# Altium schematic symbol library cypress.SCHLIB: 33 symbols
Pins are listed as number, name and electrical type; pins without a type are passive.

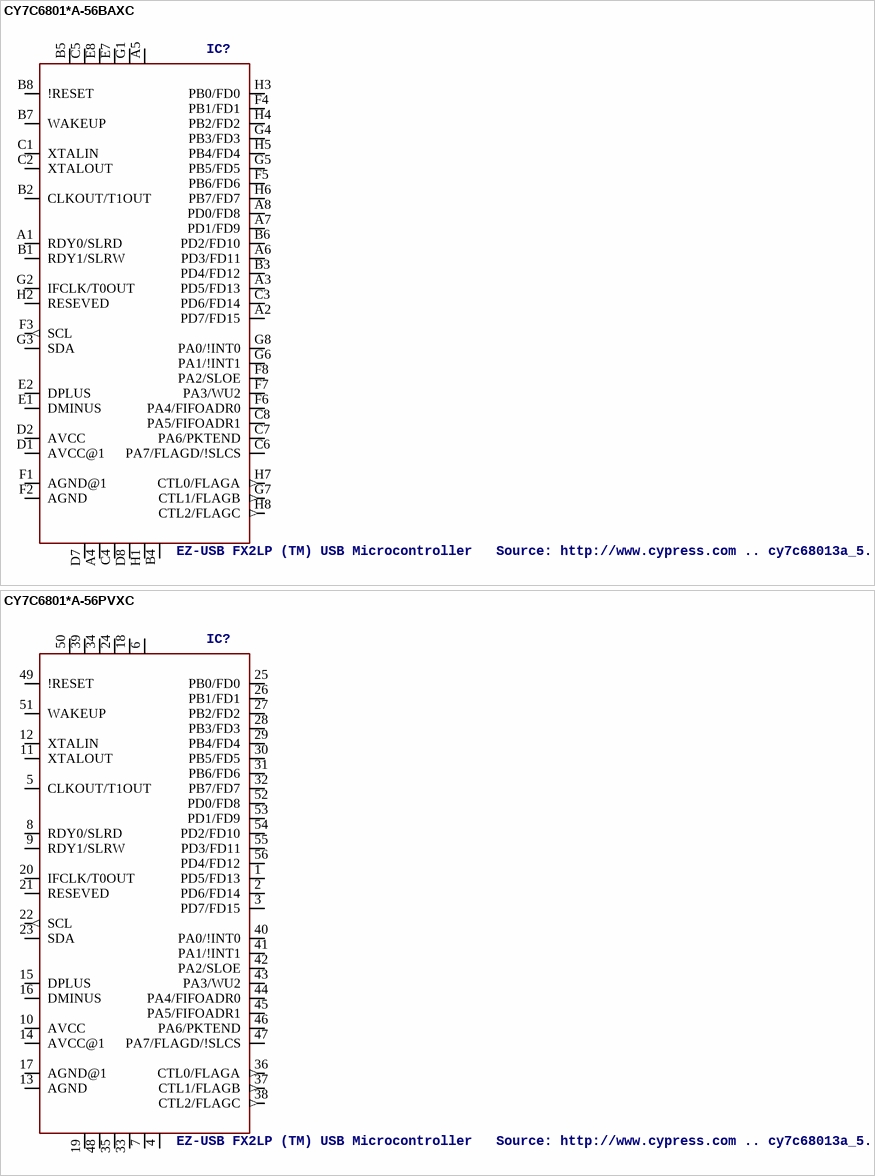
[diagram p0: symbols CY7C6801*A-56BAXC to CY7C6801*A-56PVXC]

## CY7C6801*A-56BAXC
designator IC?, comment EZ-USB FX2LP (TM) USB Microcontroller   Source: http://www.cypress.com .. cy7c68013a_5.pdf
MPN: CY7C68013A-56BAXC; MPN: CY7C68014A-56BAXC; MF: CYPRESS SEMICONDUCTOR CORPORAT; OC_FARNELL: 1269132; OC_NEWARK: 19M7110; OC_FARNELL: 1269138; OC_NEWARK: 23M5564
footprint VFBGA56
pins: A1 RDY0/SLRD, A2 PD7/FD15, A3 PD5/FD13, A4 GND@5, A5 VCC, A6 PD3/FD11, A7 PD1/FD9, A8 PD0/FD8, B1 RDY1/SLRW, B2 CLKOUT/T1OUT, B3 PD4/FD12, B4 GND, B5 VCC@5, B6 PD2/FD10, B7 WAKEUP, B8 !RESET, C1 XTALIN, C2 XTALOUT, C3 PD6/FD14, C4 GND@4, C5 VCC@4, C6 PA7/FLAGD/!SLCS, C7 PA6/PKTEND, C8 PA5/FIFOADR1, D1 AVCC@1, D2 AVCC, D7 GND@2, D8 GND@3, E1 DMINUS, E2 DPLUS, E7 VCC@2, E8 VCC@3, F1 AGND@1, F2 AGND, F3 SCL (out), F4 PB1/FD1, F5 PB6/FD6, F6 PA4/FIFOADR0, F7 PA3/WU2, F8 PA2/SLOE, G1 VCC@1, G2 IFCLK/T0OUT, G3 SDA, G4 PB3/FD3, G5 PB5/FD5, G6 PA1/!INT1, G7 CTL1/FLAGB (out), G8 PA0/!INT0, H1 GND@1, H2 RESEVED, H3 PB0/FD0, H4 PB2/FD2, H5 PB4/FD4, H6 PB7/FD7, H7 CTL0/FLAGA (out), H8 CTL2/FLAGC (out)

## CY7C6801*A-56PVXC
designator IC?, comment EZ-USB FX2LP (TM) USB Microcontroller   Source: http://www.cypress.com .. cy7c68013a_5.pdf
MPN: CY7C68013A-56PVXC; MPN: CY7C68014A-56PVXC; MF: CYPRESS SEMICONDUCTOR CORPORAT; OC_FARNELL: 1269134; OC_NEWARK: 19M7114; OC_FARNELL: 1269140; OC_NEWARK: 19M7121
footprint SSOP56
pins: 1 PD5/FD13, 2 PD6/FD14, 3 PD7/FD15, 4 GND, 5 CLKOUT/T1OUT, 6 VCC, 7 GND@1, 8 RDY0/SLRD, 9 RDY1/SLRW, 10 AVCC, 11 XTALOUT, 12 XTALIN, 13 AGND, 14 AVCC@1, 15 DPLUS, 16 DMINUS, 17 AGND@1, 18 VCC@1, 19 GND@2, 20 IFCLK/T0OUT, 21 RESEVED, 22 SCL (out), 23 SDA, 24 VCC@2, 25 PB0/FD0, 26 PB1/FD1, 27 PB2/FD2, 28 PB3/FD3, 29 PB4/FD4, 30 PB5/FD5, 31 PB6/FD6, 32 PB7/FD7, 33 GND@3, 34 VCC@3, 35 GND@4, 36 CTL0/FLAGA (out), 37 CTL1/FLAGB (out), 38 CTL2/FLAGC (out), 39 VCC@4, 40 PA0/!INT0, 41 PA1/!INT1, 42 PA2/SLOE, 43 PA3/WU2, 44 PA4/FIFOADR0, 45 PA5/FIFOADR1, 46 PA6/PKTEND, 47 PA7/FLAGD/!SLCS, 48 GND@5, 49 !RESET, 50 VCC@5, 51 WAKEUP, 52 PD0/FD8, 53 PD1/FD9, 54 PD2/FD10, 55 PD3/FD11, 56 PD4/FD12

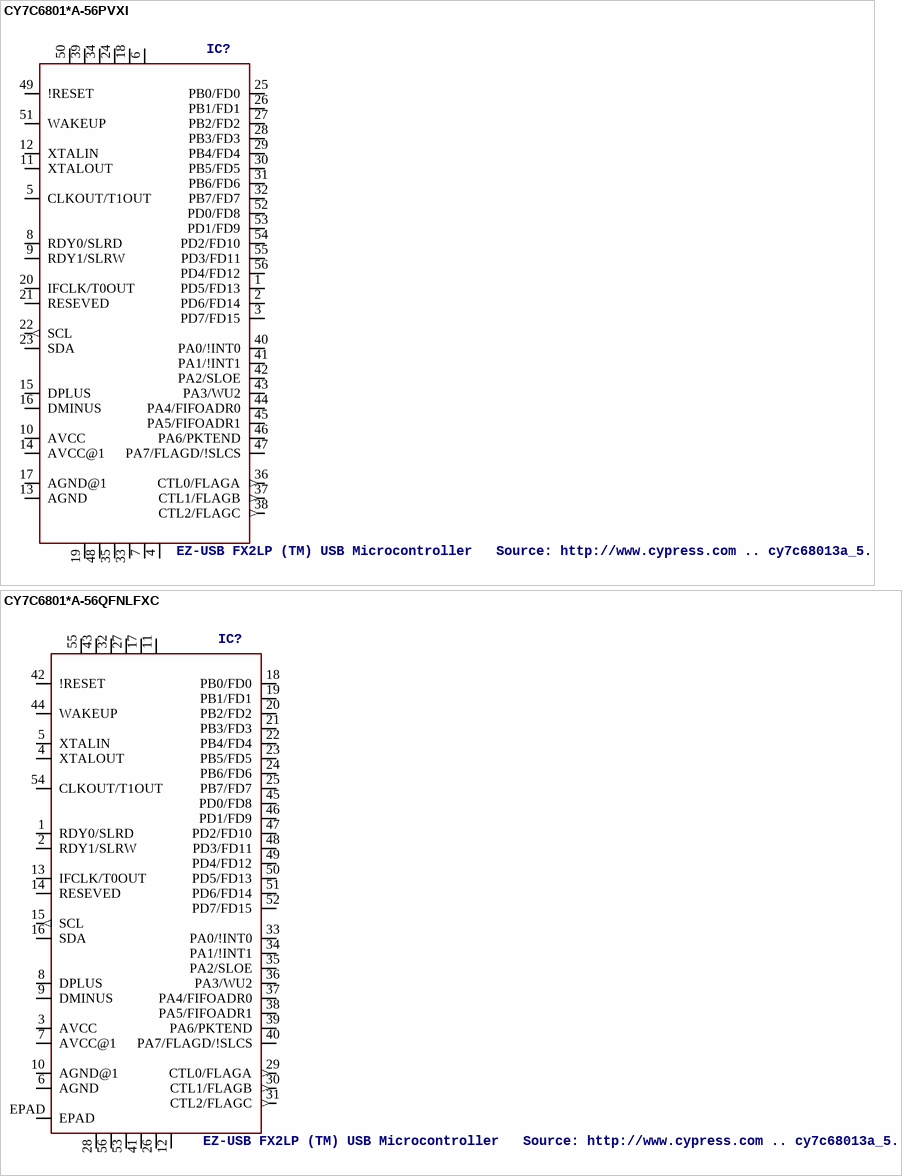
[diagram p1: symbols CY7C6801*A-56PVXI to CY7C6801*A-56QFNLFXC]

## CY7C6801*A-56PVXI
designator IC?, comment EZ-USB FX2LP (TM) USB Microcontroller   Source: http://www.cypress.com .. cy7c68013a_5.pdf
MPN: CY7C68013A-56PVXI; OC_FARNELL: 1761053; OC_NEWARK: 19M7116
footprint SSOP56
pins: 1 PD5/FD13, 2 PD6/FD14, 3 PD7/FD15, 4 GND, 5 CLKOUT/T1OUT, 6 VCC, 7 GND@1, 8 RDY0/SLRD, 9 RDY1/SLRW, 10 AVCC, 11 XTALOUT, 12 XTALIN, 13 AGND, 14 AVCC@1, 15 DPLUS, 16 DMINUS, 17 AGND@1, 18 VCC@1, 19 GND@2, 20 IFCLK/T0OUT, 21 RESEVED, 22 SCL (out), 23 SDA, 24 VCC@2, 25 PB0/FD0, 26 PB1/FD1, 27 PB2/FD2, 28 PB3/FD3, 29 PB4/FD4, 30 PB5/FD5, 31 PB6/FD6, 32 PB7/FD7, 33 GND@3, 34 VCC@3, 35 GND@4, 36 CTL0/FLAGA (out), 37 CTL1/FLAGB (out), 38 CTL2/FLAGC (out), 39 VCC@4, 40 PA0/!INT0, 41 PA1/!INT1, 42 PA2/SLOE, 43 PA3/WU2, 44 PA4/FIFOADR0, 45 PA5/FIFOADR1, 46 PA6/PKTEND, 47 PA7/FLAGD/!SLCS, 48 GND@5, 49 !RESET, 50 VCC@5, 51 WAKEUP, 52 PD0/FD8, 53 PD1/FD9, 54 PD2/FD10, 55 PD3/FD11, 56 PD4/FD12

## CY7C6801*A-56QFNLFXC
designator IC?, comment EZ-USB FX2LP (TM) USB Microcontroller   Source: http://www.cypress.com .. cy7c68013a_5.pdf
OC_FARNELL: unknown; OC_NEWARK: unknown
footprint QFN56
pins: 1 RDY0/SLRD, 2 RDY1/SLRW, 3 AVCC, 4 XTALOUT, 5 XTALIN, 6 AGND, 7 AVCC@1, 8 DPLUS, 9 DMINUS, 10 AGND@1, 11 VCC, 12 GND, 13 IFCLK/T0OUT, 14 RESEVED, 15 SCL (out), 16 SDA, 17 VCC@1, 18 PB0/FD0, 19 PB1/FD1, 20 PB2/FD2, 21 PB3/FD3, 22 PB4/FD4, 23 PB5/FD5, 24 PB6/FD6, 25 PB7/FD7, 26 GND@1, 27 VCC@2, 28 GND@2, 29 CTL0/FLAGA (out), 30 CTL1/FLAGB (out), 31 CTL2/FLAGC (out), 32 VCC@3, 33 PA0/!INT0, 34 PA1/!INT1, 35 PA2/SLOE, 36 PA3/WU2, 37 PA4/FIFOADR0, 38 PA5/FIFOADR1, 39 PA6/PKTEND, 40 PA7/FLAGD/!SLCS, 41 GND@3, 42 !RESET, 43 VCC@4, 44 WAKEUP, 45 PD0/FD8, 46 PD1/FD9, 47 PD2/FD10, 48 PD3/FD11, 49 PD4/FD12, 50 PD5/FD13, 51 PD6/FD14, 52 PD7/FD15, 53 GND@4, 54 CLKOUT/T1OUT, 55 VCC@5, 56 GND@5, EPAD

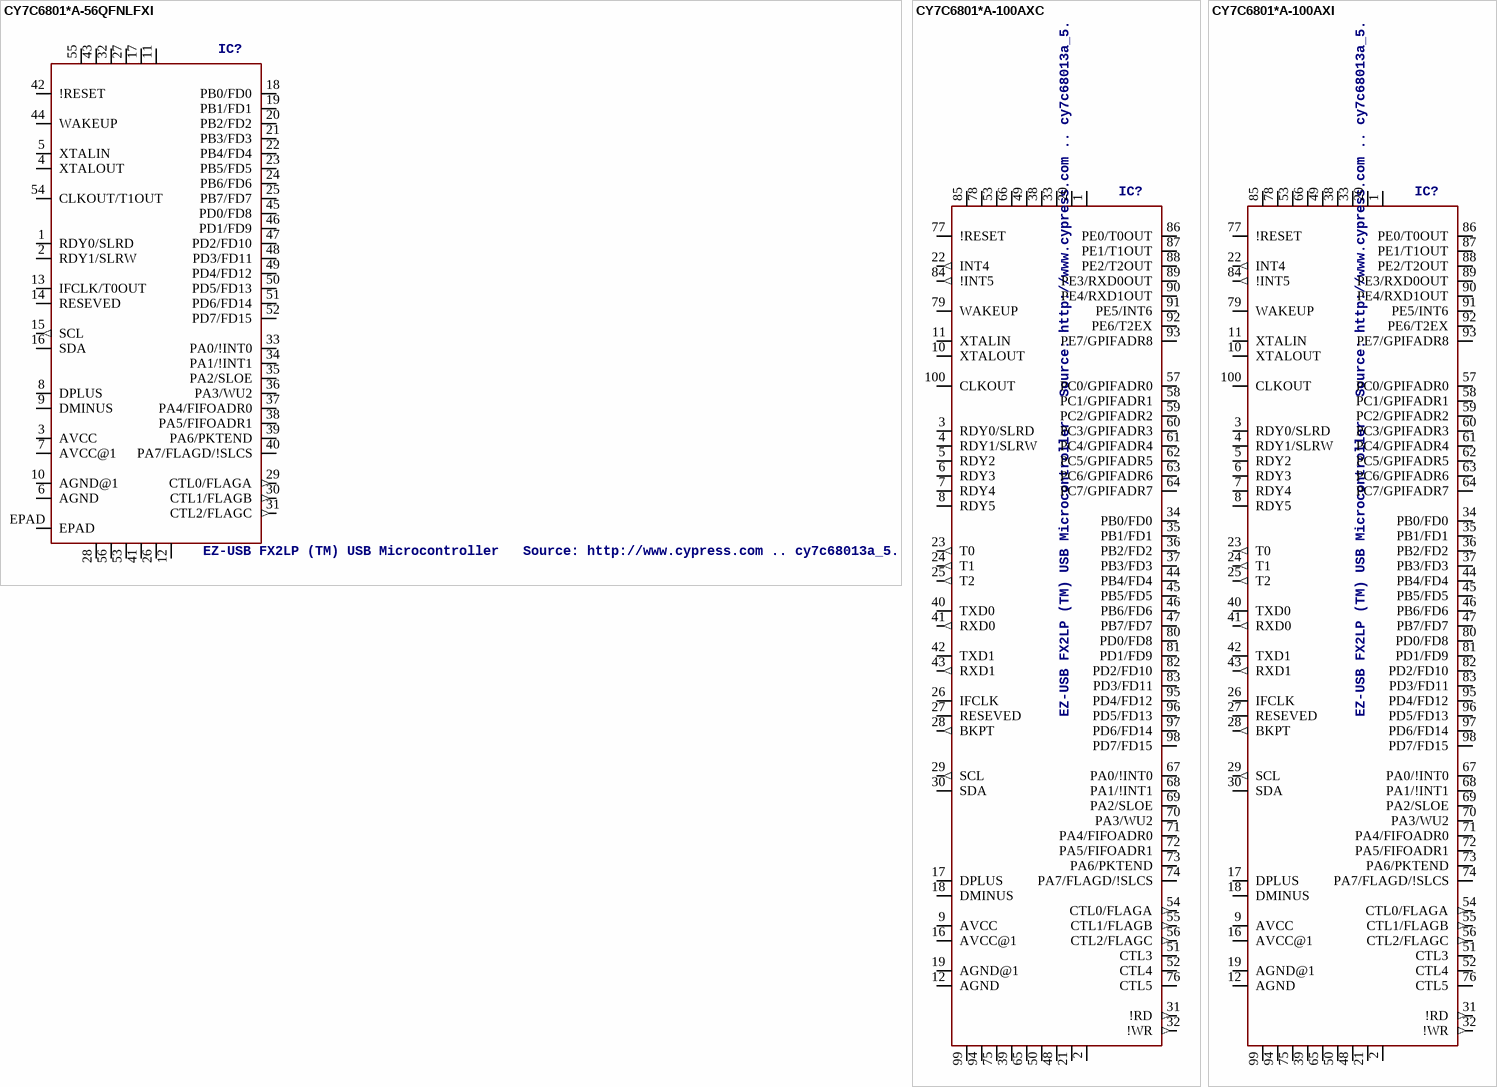
[diagram p2: symbols CY7C6801*A-56QFNLFXI to CY7C6801*A-100AXI]

## CY7C6801*A-56QFNLFXI
designator IC?, comment EZ-USB FX2LP (TM) USB Microcontroller   Source: http://www.cypress.com .. cy7c68013a_5.pdf
OC_FARNELL: unknown; OC_NEWARK: unknown
footprint QFN56
pins: 1 RDY0/SLRD, 2 RDY1/SLRW, 3 AVCC, 4 XTALOUT, 5 XTALIN, 6 AGND, 7 AVCC@1, 8 DPLUS, 9 DMINUS, 10 AGND@1, 11 VCC, 12 GND, 13 IFCLK/T0OUT, 14 RESEVED, 15 SCL (out), 16 SDA, 17 VCC@1, 18 PB0/FD0, 19 PB1/FD1, 20 PB2/FD2, 21 PB3/FD3, 22 PB4/FD4, 23 PB5/FD5, 24 PB6/FD6, 25 PB7/FD7, 26 GND@1, 27 VCC@2, 28 GND@2, 29 CTL0/FLAGA (out), 30 CTL1/FLAGB (out), 31 CTL2/FLAGC (out), 32 VCC@3, 33 PA0/!INT0, 34 PA1/!INT1, 35 PA2/SLOE, 36 PA3/WU2, 37 PA4/FIFOADR0, 38 PA5/FIFOADR1, 39 PA6/PKTEND, 40 PA7/FLAGD/!SLCS, 41 GND@3, 42 !RESET, 43 VCC@4, 44 WAKEUP, 45 PD0/FD8, 46 PD1/FD9, 47 PD2/FD10, 48 PD3/FD11, 49 PD4/FD12, 50 PD5/FD13, 51 PD6/FD14, 52 PD7/FD15, 53 GND@4, 54 CLKOUT/T1OUT, 55 VCC@5, 56 GND@5, EPAD

## CY7C6801*A-100AXC
designator IC?, comment EZ-USB FX2LP (TM) USB Microcontroller   Source: http://www.cypress.com .. cy7c68013a_5.pdf
MPN: CY7C68013A-100AXC; MPN: CY7C68014A-100AXC; MF: CYPRESS SEMICONDUCTOR CORPORAT; OC_FARNELL: 1269130; OC_NEWARK: 19M7106; OC_FARNELL: 1269135; OC_NEWARK: 19M7117
footprint SQFP-R-14X20-100
pins: 1 VCC, 2 GND, 3 RDY0/SLRD, 4 RDY1/SLRW, 5 RDY2, 6 RDY3, 7 RDY4, 8 RDY5, 9 AVCC, 10 XTALOUT, 11 XTALIN, 12 AGND, 16 AVCC@1, 17 DPLUS, 18 DMINUS, 19 AGND@1, 20 VCC@1, 21 GND@1, 22 INT4 (out), 23 T0 (out), 24 T1 (out), 25 T2 (out), 26 IFCLK, 27 RESEVED, 28 BKPT (out), 29 SCL (out), 30 SDA, 31 !RD (out), 32 !WR (out), 33 VCC@2, 34 PB0/FD0, 35 PB1/FD1, 36 PB2/FD2, 37 PB3/FD3, 38 VCC@3, 39 GND@2, 40 TXD0, 41 RXD0 (out), 42 TXD1, 43 RXD1 (out), 44 PB4/FD4, 45 PB5/FD5, 46 PB6/FD6, 47 PB7/FD7, 48 GND@3, 49 VCC@4, 50 GND@4, 51 CTL3, 52 CTL4, 53 VCC@6, 54 CTL0/FLAGA (out), 55 CTL1/FLAGB (out), 56 CTL2/FLAGC (out), 57 PC0/GPIFADR0, 58 PC1/GPIFADR1, 59 PC2/GPIFADR2, 60 PC3/GPIFADR3, 61 PC4/GPIFADR4, 62 PC5/GPIFADR5, 63 PC6/GPIFADR6, 64 PC7/GPIFADR7, 65 GND@5, 66 VCC@5, 67 PA0/!INT0, 68 PA1/!INT1, 69 PA2/SLOE, 70 PA3/WU2, 71 PA4/FIFOADR0, 72 PA5/FIFOADR1, 73 PA6/PKTEND, 74 PA7/FLAGD/!SLCS, 75 GND@6, 76 CTL5, 77 !RESET, 78 VCC@7, 79 WAKEUP, 80 PD0/FD8, 81 PD1/FD9, 82 PD2/FD10, 83 PD3/FD11, 84 !INT5 (out), 85 VCC@8, 86 PE0/T0OUT, 87 PE1/T1OUT, 88 PE2/T2OUT, 89 PE3/RXD0OUT, 90 PE4/RXD1OUT, 91 PE5/INT6, 92 PE6/T2EX, 93 PE7/GPIFADR8, 94 GND@7, 95 PD4/FD12, 96 PD5/FD13, 97 PD6/FD14, 98 PD7/FD15, 99 GND@8, 100 CLKOUT

## CY7C6801*A-100AXI
designator IC?, comment EZ-USB FX2LP (TM) USB Microcontroller   Source: http://www.cypress.com .. cy7c68013a_5.pdf
MPN: CY7C68013A-100AXI; OC_FARNELL: unknown; OC_NEWARK: 19M7107
footprint SQFP-R-14X20-100
pins: 1 VCC, 2 GND, 3 RDY0/SLRD, 4 RDY1/SLRW, 5 RDY2, 6 RDY3, 7 RDY4, 8 RDY5, 9 AVCC, 10 XTALOUT, 11 XTALIN, 12 AGND, 16 AVCC@1, 17 DPLUS, 18 DMINUS, 19 AGND@1, 20 VCC@1, 21 GND@1, 22 INT4 (out), 23 T0 (out), 24 T1 (out), 25 T2 (out), 26 IFCLK, 27 RESEVED, 28 BKPT (out), 29 SCL (out), 30 SDA, 31 !RD (out), 32 !WR (out), 33 VCC@2, 34 PB0/FD0, 35 PB1/FD1, 36 PB2/FD2, 37 PB3/FD3, 38 VCC@3, 39 GND@2, 40 TXD0, 41 RXD0 (out), 42 TXD1, 43 RXD1 (out), 44 PB4/FD4, 45 PB5/FD5, 46 PB6/FD6, 47 PB7/FD7, 48 GND@3, 49 VCC@4, 50 GND@4, 51 CTL3, 52 CTL4, 53 VCC@6, 54 CTL0/FLAGA (out), 55 CTL1/FLAGB (out), 56 CTL2/FLAGC (out), 57 PC0/GPIFADR0, 58 PC1/GPIFADR1, 59 PC2/GPIFADR2, 60 PC3/GPIFADR3, 61 PC4/GPIFADR4, 62 PC5/GPIFADR5, 63 PC6/GPIFADR6, 64 PC7/GPIFADR7, 65 GND@5, 66 VCC@5, 67 PA0/!INT0, 68 PA1/!INT1, 69 PA2/SLOE, 70 PA3/WU2, 71 PA4/FIFOADR0, 72 PA5/FIFOADR1, 73 PA6/PKTEND, 74 PA7/FLAGD/!SLCS, 75 GND@6, 76 CTL5, 77 !RESET, 78 VCC@7, 79 WAKEUP, 80 PD0/FD8, 81 PD1/FD9, 82 PD2/FD10, 83 PD3/FD11, 84 !INT5 (out), 85 VCC@8, 86 PE0/T0OUT, 87 PE1/T1OUT, 88 PE2/T2OUT, 89 PE3/RXD0OUT, 90 PE4/RXD1OUT, 91 PE5/INT6, 92 PE6/T2EX, 93 PE7/GPIFADR8, 94 GND@7, 95 PD4/FD12, 96 PD5/FD13, 97 PD6/FD14, 98 PD7/FD15, 99 GND@8, 100 CLKOUT

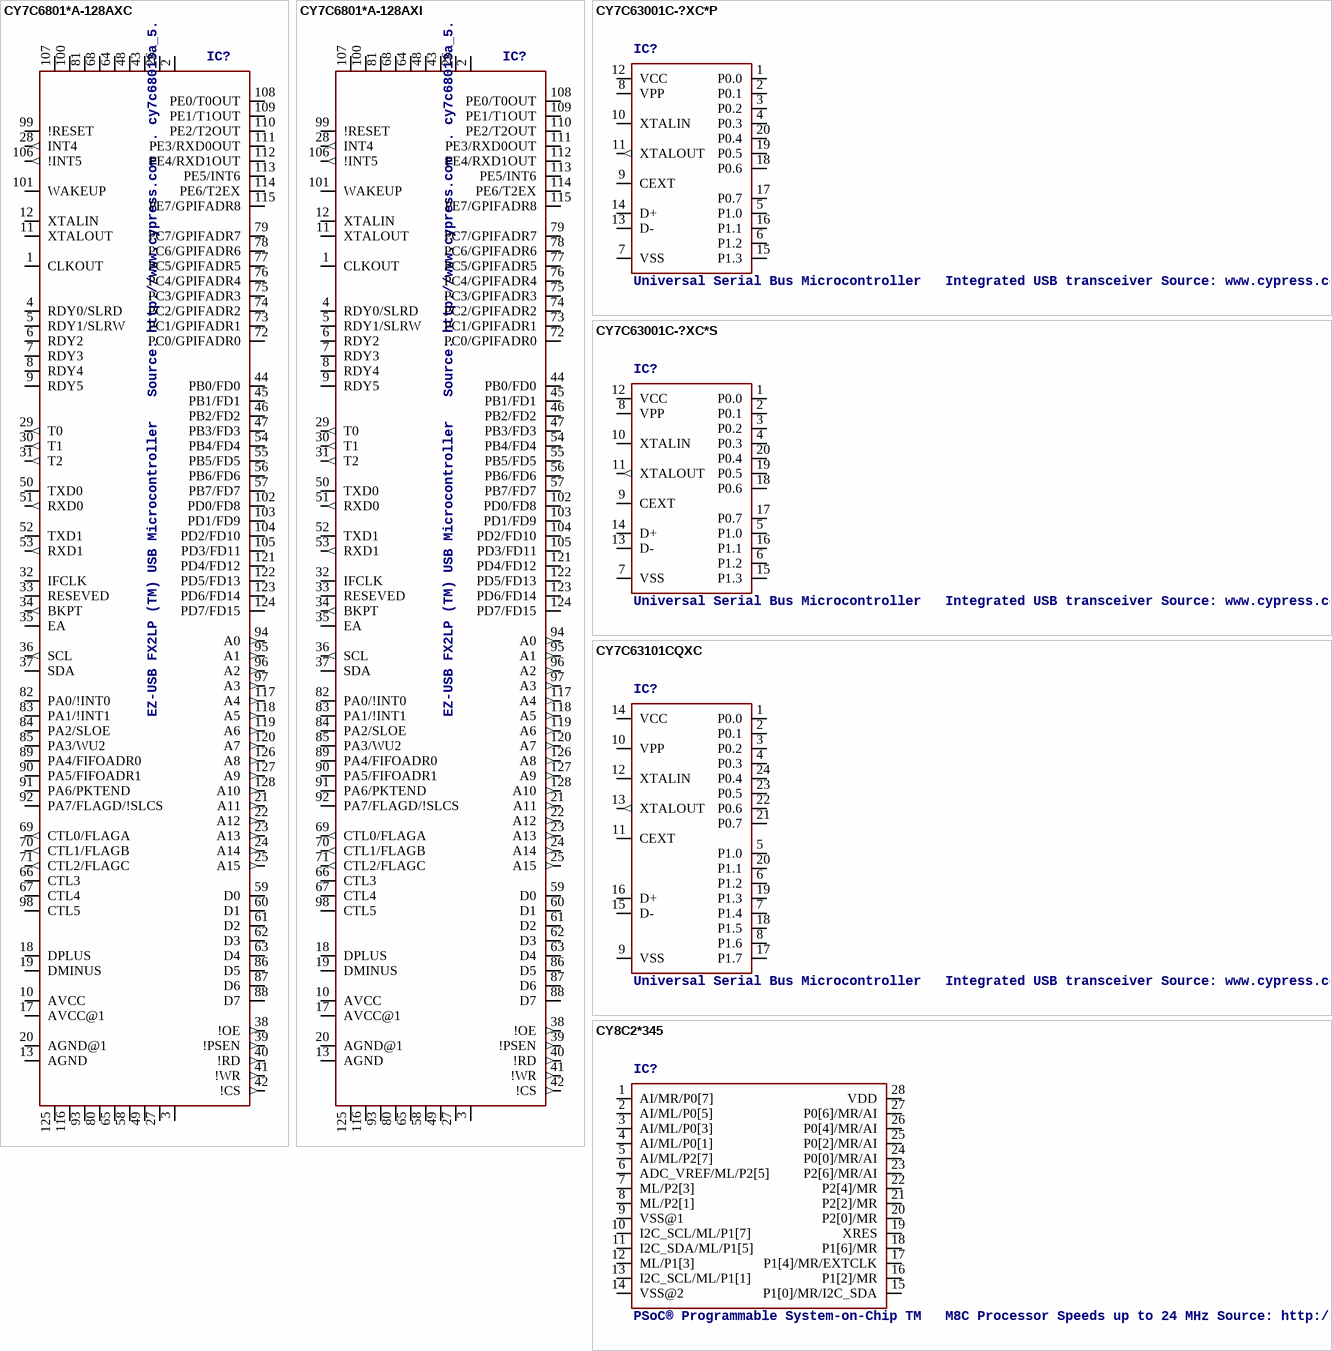
[diagram p3: symbols CY7C6801*A-128AXC to CY8C2*345]

## CY7C6801*A-128AXC
designator IC?, comment EZ-USB FX2LP (TM) USB Microcontroller   Source: http://www.cypress.com .. cy7c68013a_5.pdf
MPN: CY7C68013A-128AXC; MPN: CY7C68014A-128AXC; MF: CYPRESS SEMICONDUCTOR CORPORAT; OC_FARNELL: 1269131; OC_NEWARK: 19M7108; OC_FARNELL: 1269137; OC_NEWARK: 23M5563
footprint SQFP-R-14X20-128
pins: 1 CLKOUT, 2 VCC, 3 GND, 4 RDY0/SLRD, 5 RDY1/SLRW, 6 RDY2, 7 RDY3, 8 RDY4, 9 RDY5, 10 AVCC, 11 XTALOUT, 12 XTALIN, 13 AGND, 17 AVCC@1, 18 DPLUS, 19 DMINUS, 20 AGND@1, 21 A11 (out), 22 A12 (out), 23 A13 (out), 24 A14 (out), 25 A15 (out), 26 VCC@1, 27 GND@1, 28 INT4 (out), 29 T0 (out), 30 T1 (out), 31 T2 (out), 32 IFCLK, 33 RESEVED, 34 BKPT (out), 35 EA, 36 SCL (out), 37 SDA, 38 !OE (out), 39 !PSEN (out), 40 !RD (out), 41 !WR (out), 42 !CS (out), 43 VCC@2, 44 PB0/FD0, 45 PB1/FD1, 46 PB2/FD2, 47 PB3/FD3, 48 VCC@3, 49 GND@3, 50 TXD0, 51 RXD0 (out), 52 TXD1, 53 RXD1 (out), 54 PB4/FD4, 55 PB5/FD5, 56 PB6/FD6, 57 PB7/FD7, 58 GND@4, 59 D0, 60 D1, 61 D2, 62 D3, 63 D4, 64 VCC@4, 65 GND@5, 66 CTL3, 67 CTL4, 68 VCC@5, 69 CTL0/FLAGA (out), 70 CTL1/FLAGB (out), 71 CTL2/FLAGC (out), 72 PC0/GPIFADR0, 73 PC1/GPIFADR1, 74 PC2/GPIFADR2, 75 PC3/GPIFADR3, 76 PC4/GPIFADR4, 77 PC5/GPIFADR5, 78 PC6/GPIFADR6, 79 PC7/GPIFADR7, 80 GND@2, 81 VCC@6, 82 PA0/!INT0, 83 PA1/!INT1, 84 PA2/SLOE, 85 PA3/WU2, 86 D5, 87 D6, 88 D7, 89 PA4/FIFOADR0, 90 PA5/FIFOADR1, 91 PA6/PKTEND, 92 PA7/FLAGD/!SLCS, 93 GND@6, 94 A0 (out), 95 A1 (out), 96 A2 (out), 97 A3 (out), 98 CTL5, 99 !RESET, 100 VCC@7, 101 WAKEUP, 102 PD0/FD8, 103 PD1/FD9, 104 PD2/FD10, 105 PD3/FD11, 106 !INT5 (out), 107 VCC@8, 108 PE0/T0OUT, 109 PE1/T1OUT, 110 PE2/T2OUT, 111 PE3/RXD0OUT, 112 PE4/RXD1OUT, 113 PE5/INT6, 114 PE6/T2EX, 115 PE7/GPIFADR8, 116 GND@7, 117 A4 (out), 118 A5 (out), 119 A6 (out), 120 A7 (out), 121 PD4/FD12, 122 PD5/FD13, 123 PD6/FD14, 124 PD7/FD15, 125 GND@8, 126 A8 (out), 127 A9 (out), 128 A10 (out)

## CY7C6801*A-128AXI
designator IC?, comment EZ-USB FX2LP (TM) USB Microcontroller   Source: http://www.cypress.com .. cy7c68013a_5.pdf
MPN: CY7C68013A-128AXI; OC_FARNELL: 1761052; OC_NEWARK: 19M7109
footprint SQFP-R-14X20-128
pins: 1 CLKOUT, 2 VCC, 3 GND, 4 RDY0/SLRD, 5 RDY1/SLRW, 6 RDY2, 7 RDY3, 8 RDY4, 9 RDY5, 10 AVCC, 11 XTALOUT, 12 XTALIN, 13 AGND, 17 AVCC@1, 18 DPLUS, 19 DMINUS, 20 AGND@1, 21 A11 (out), 22 A12 (out), 23 A13 (out), 24 A14 (out), 25 A15 (out), 26 VCC@1, 27 GND@1, 28 INT4 (out), 29 T0 (out), 30 T1 (out), 31 T2 (out), 32 IFCLK, 33 RESEVED, 34 BKPT (out), 35 EA, 36 SCL (out), 37 SDA, 38 !OE (out), 39 !PSEN (out), 40 !RD (out), 41 !WR (out), 42 !CS (out), 43 VCC@2, 44 PB0/FD0, 45 PB1/FD1, 46 PB2/FD2, 47 PB3/FD3, 48 VCC@3, 49 GND@3, 50 TXD0, 51 RXD0 (out), 52 TXD1, 53 RXD1 (out), 54 PB4/FD4, 55 PB5/FD5, 56 PB6/FD6, 57 PB7/FD7, 58 GND@4, 59 D0, 60 D1, 61 D2, 62 D3, 63 D4, 64 VCC@4, 65 GND@5, 66 CTL3, 67 CTL4, 68 VCC@5, 69 CTL0/FLAGA (out), 70 CTL1/FLAGB (out), 71 CTL2/FLAGC (out), 72 PC0/GPIFADR0, 73 PC1/GPIFADR1, 74 PC2/GPIFADR2, 75 PC3/GPIFADR3, 76 PC4/GPIFADR4, 77 PC5/GPIFADR5, 78 PC6/GPIFADR6, 79 PC7/GPIFADR7, 80 GND@2, 81 VCC@6, 82 PA0/!INT0, 83 PA1/!INT1, 84 PA2/SLOE, 85 PA3/WU2, 86 D5, 87 D6, 88 D7, 89 PA4/FIFOADR0, 90 PA5/FIFOADR1, 91 PA6/PKTEND, 92 PA7/FLAGD/!SLCS, 93 GND@6, 94 A0 (out), 95 A1 (out), 96 A2 (out), 97 A3 (out), 98 CTL5, 99 !RESET, 100 VCC@7, 101 WAKEUP, 102 PD0/FD8, 103 PD1/FD9, 104 PD2/FD10, 105 PD3/FD11, 106 !INT5 (out), 107 VCC@8, 108 PE0/T0OUT, 109 PE1/T1OUT, 110 PE2/T2OUT, 111 PE3/RXD0OUT, 112 PE4/RXD1OUT, 113 PE5/INT6, 114 PE6/T2EX, 115 PE7/GPIFADR8, 116 GND@7, 117 A4 (out), 118 A5 (out), 119 A6 (out), 120 A7 (out), 121 PD4/FD12, 122 PD5/FD13, 123 PD6/FD14, 124 PD7/FD15, 125 GND@8, 126 A8 (out), 127 A9 (out), 128 A10 (out)

## CY7C63001C-?XC*P
designator IC?, comment Universal Serial Bus Microcontroller   Integrated USB transceiver Source: www.cypress.com .. CY7C6301XX.pdf
MPN: CY7C63001C-PXC; OC_FARNELL: unknown; OC_NEWARK: 19M7032
footprint DIL20
pins: 1 P0.0, 2 P0.1, 3 P0.2, 4 P0.3, 5 P1.0, 6 P1.2, 7 VSS (power), 8 VPP, 9 CEXT, 10 XTALIN, 11 XTALOUT (out), 12 VCC (power), 13 D-, 14 D+, 15 P1.3, 16 P1.1, 17 P0.7, 18 P0.6, 19 P0.5, 20 P0.4

## CY7C63001C-?XC*S
designator IC?, comment Universal Serial Bus Microcontroller   Integrated USB transceiver Source: www.cypress.com .. CY7C6301XX.pdf
MPN: CY7C63001C-SXC; MPN: CY7C63001C-SXCT; OC_FARNELL: 1769872; OC_NEWARK: 19M7033; OC_FARNELL: unknown; OC_NEWARK: 19M7034
footprint SO20L
pins: 1 P0.0, 2 P0.1, 3 P0.2, 4 P0.3, 5 P1.0, 6 P1.2, 7 VSS (power), 8 VPP, 9 CEXT, 10 XTALIN, 11 XTALOUT (out), 12 VCC (power), 13 D-, 14 D+, 15 P1.3, 16 P1.1, 17 P0.7, 18 P0.6, 19 P0.5, 20 P0.4

## CY7C63101CQXC
designator IC?, comment Universal Serial Bus Microcontroller   Integrated USB transceiver Source: www.cypress.com .. CY7C6301XX.pdf
MPN: CY7C63101C-QXC; OC_FARNELL: unknown; OC_NEWARK: 19M7035
footprint QSOP24
pins: 1 P0.0, 2 P0.1, 3 P0.2, 4 P0.3, 5 P1.0, 6 P1.2, 7 P1.4, 8 P1.6, 9 VSS (power), 10 VPP, 11 CEXT, 12 XTALIN, 13 XTALOUT (out), 14 VCC (power), 15 D-, 16 D+, 17 P1.7, 18 P1.5, 19 P1.3, 20 P1.1, 21 P0.7, 22 P0.6, 23 P0.5, 24 P0.4

## CY8C2*345
designator IC?, comment PSoC® Programmable System-on-Chip TM   M8C Processor Speeds up to 24 MHz Source: http://www.cypress.com .. CY8C213452.pdf
MPN: CY3250-22345; OC_FARNELL: unknown; OC_NEWARK: unknown; OC_NEWARK: 50R9266
footprint SOIC28-3
pins: 1 AI/MR/P0[7], 2 AI/ML/P0[5], 3 AI/ML/P0[3], 4 AI/ML/P0[1], 5 AI/ML/P2[7], 6 ADC_VREF/ML/P2[5], 7 ML/P2[3], 8 ML/P2[1], 9 VSS@1 (power), 10 I2C_SCL/ML/P1[7], 11 I2C_SDA/ML/P1[5], 12 ML/P1[3], 13 I2C_SCL/ML/P1[1], 14 VSS@2 (power), 15 P1[0]/MR/I2C_SDA, 16 P1[2]/MR, 17 P1[4]/MR/EXTCLK, 18 P1[6]/MR, 19 XRES, 20 P2[0]/MR, 21 P2[2]/MR, 22 P2[4]/MR, 23 P2[6]/MR/AI, 24 P0[0]/MR/AI, 25 P0[2]/MR/AI, 26 P0[4]/MR/AI, 27 P0[6]/MR/AI, 28 VDD (power)

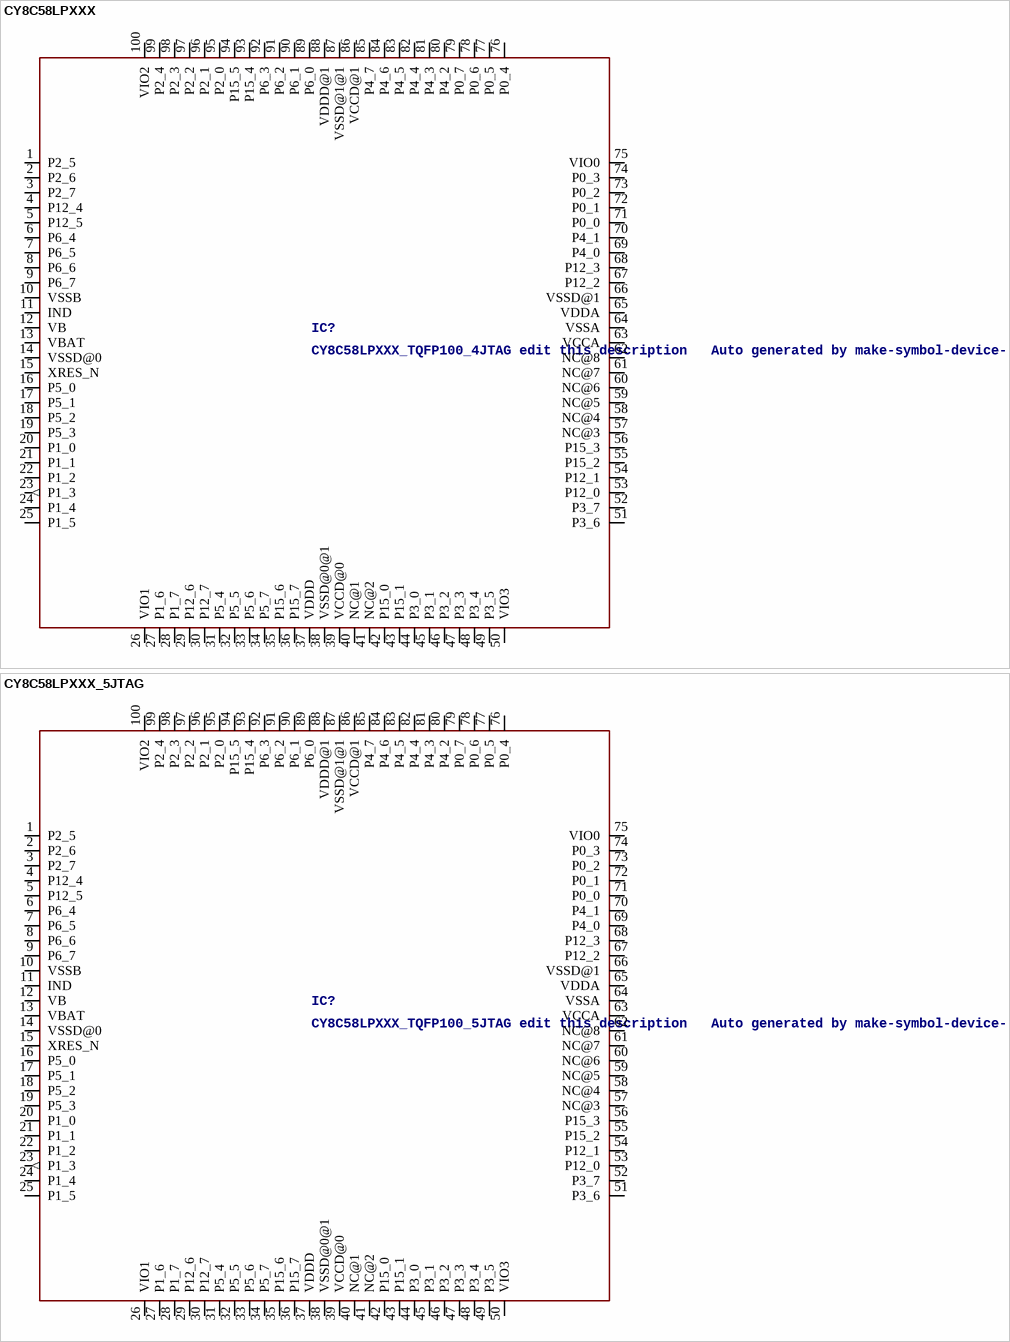
[diagram p4: symbols CY8C58LPXXX to CY8C58LPXXX_5JTAG]

## CY8C58LPXXX
designator IC?, comment CY8C58LPXXX_TQFP100_4JTAG edit this description   Auto generated by make-symbol-device-package-bsdl.ulp Rev. 43 Source: CY8C58LPXXX_TQFP100_4JTAG.bsdl
footprint TQFP100-14X14
pins: 1 P2_5, 2 P2_6, 3 P2_7, 4 P12_4, 5 P12_5, 6 P6_4, 7 P6_5, 8 P6_6, 9 P6_7, 10 VSSB (power), 11 IND, 12 VB, 13 VBAT, 14 VSSD@0 (power), 15 XRES_N, 16 P5_0, 17 P5_1, 18 P5_2, 19 P5_3, 20 P1_0, 21 P1_1, 22 P1_2, 23 P1_3 (out), 24 P1_4, 25 P1_5, 26 VIO1, 27 P1_6, 28 P1_7, 29 P12_6, 30 P12_7, 31 P5_4, 32 P5_5, 33 P5_6, 34 P5_7, 35 P15_6 (hiz), 36 P15_7 (hiz), 37 VDDD (power), 38 VSSD@0@1 (power), 39 VCCD@0 (power), 40 NC@1, 41 NC@2, 42 P15_0, 43 P15_1, 44 P3_0, 45 P3_1, 46 P3_2, 47 P3_3, 48 P3_4, 49 P3_5, 50 VIO3, 51 P3_6, 52 P3_7, 53 P12_0, 54 P12_1, 55 P15_2, 56 P15_3, 57 NC@3, 58 NC@4, 59 NC@5, 60 NC@6, 61 NC@7, 62 NC@8, 63 VCCA (power), 64 VSSA (power), 65 VDDA (power), 66 VSSD@1 (power), 67 P12_2, 68 P12_3, 69 P4_0, 70 P4_1, 71 P0_0, 72 P0_1, 73 P0_2, 74 P0_3, 75 VIO0, 76 P0_4, 77 P0_5, 78 P0_6, 79 P0_7, 80 P4_2, 81 P4_3, 82 P4_4, 83 P4_5, 84 P4_6, 85 P4_7, 86 VCCD@1 (power), 87 VSSD@1@1 (power), 88 VDDD@1 (power), 89 P6_0, 90 P6_1, 91 P6_2, 92 P6_3, 93 P15_4, 94 P15_5, 95 P2_0, 96 P2_1, 97 P2_2, 98 P2_3, 99 P2_4, 100 VIO2

## CY8C58LPXXX_5JTAG
designator IC?, comment CY8C58LPXXX_TQFP100_5JTAG edit this description   Auto generated by make-symbol-device-package-bsdl.ulp Rev. 43 Source: CY8C58LPXXX_TQFP100_5JTAG.bsdl
footprint TQFP100-14X14
pins: 1 P2_5, 2 P2_6, 3 P2_7, 4 P12_4, 5 P12_5, 6 P6_4, 7 P6_5, 8 P6_6, 9 P6_7, 10 VSSB (power), 11 IND, 12 VB, 13 VBAT, 14 VSSD@0 (power), 15 XRES_N, 16 P5_0, 17 P5_1, 18 P5_2, 19 P5_3, 20 P1_0, 21 P1_1, 22 P1_2, 23 P1_3 (out), 24 P1_4, 25 P1_5, 26 VIO1, 27 P1_6, 28 P1_7, 29 P12_6, 30 P12_7, 31 P5_4, 32 P5_5, 33 P5_6, 34 P5_7, 35 P15_6 (hiz), 36 P15_7 (hiz), 37 VDDD (power), 38 VSSD@0@1 (power), 39 VCCD@0 (power), 40 NC@1, 41 NC@2, 42 P15_0, 43 P15_1, 44 P3_0, 45 P3_1, 46 P3_2, 47 P3_3, 48 P3_4, 49 P3_5, 50 VIO3, 51 P3_6, 52 P3_7, 53 P12_0, 54 P12_1, 55 P15_2, 56 P15_3, 57 NC@3, 58 NC@4, 59 NC@5, 60 NC@6, 61 NC@7, 62 NC@8, 63 VCCA (power), 64 VSSA (power), 65 VDDA (power), 66 VSSD@1 (power), 67 P12_2, 68 P12_3, 69 P4_0, 70 P4_1, 71 P0_0, 72 P0_1, 73 P0_2, 74 P0_3, 75 VIO0, 76 P0_4, 77 P0_5, 78 P0_6, 79 P0_7, 80 P4_2, 81 P4_3, 82 P4_4, 83 P4_5, 84 P4_6, 85 P4_7, 86 VCCD@1 (power), 87 VSSD@1@1 (power), 88 VDDD@1 (power), 89 P6_0, 90 P6_1, 91 P6_2, 92 P6_3, 93 P15_4, 94 P15_5, 95 P2_0, 96 P2_1, 97 P2_2, 98 P2_3, 99 P2_4, 100 VIO2

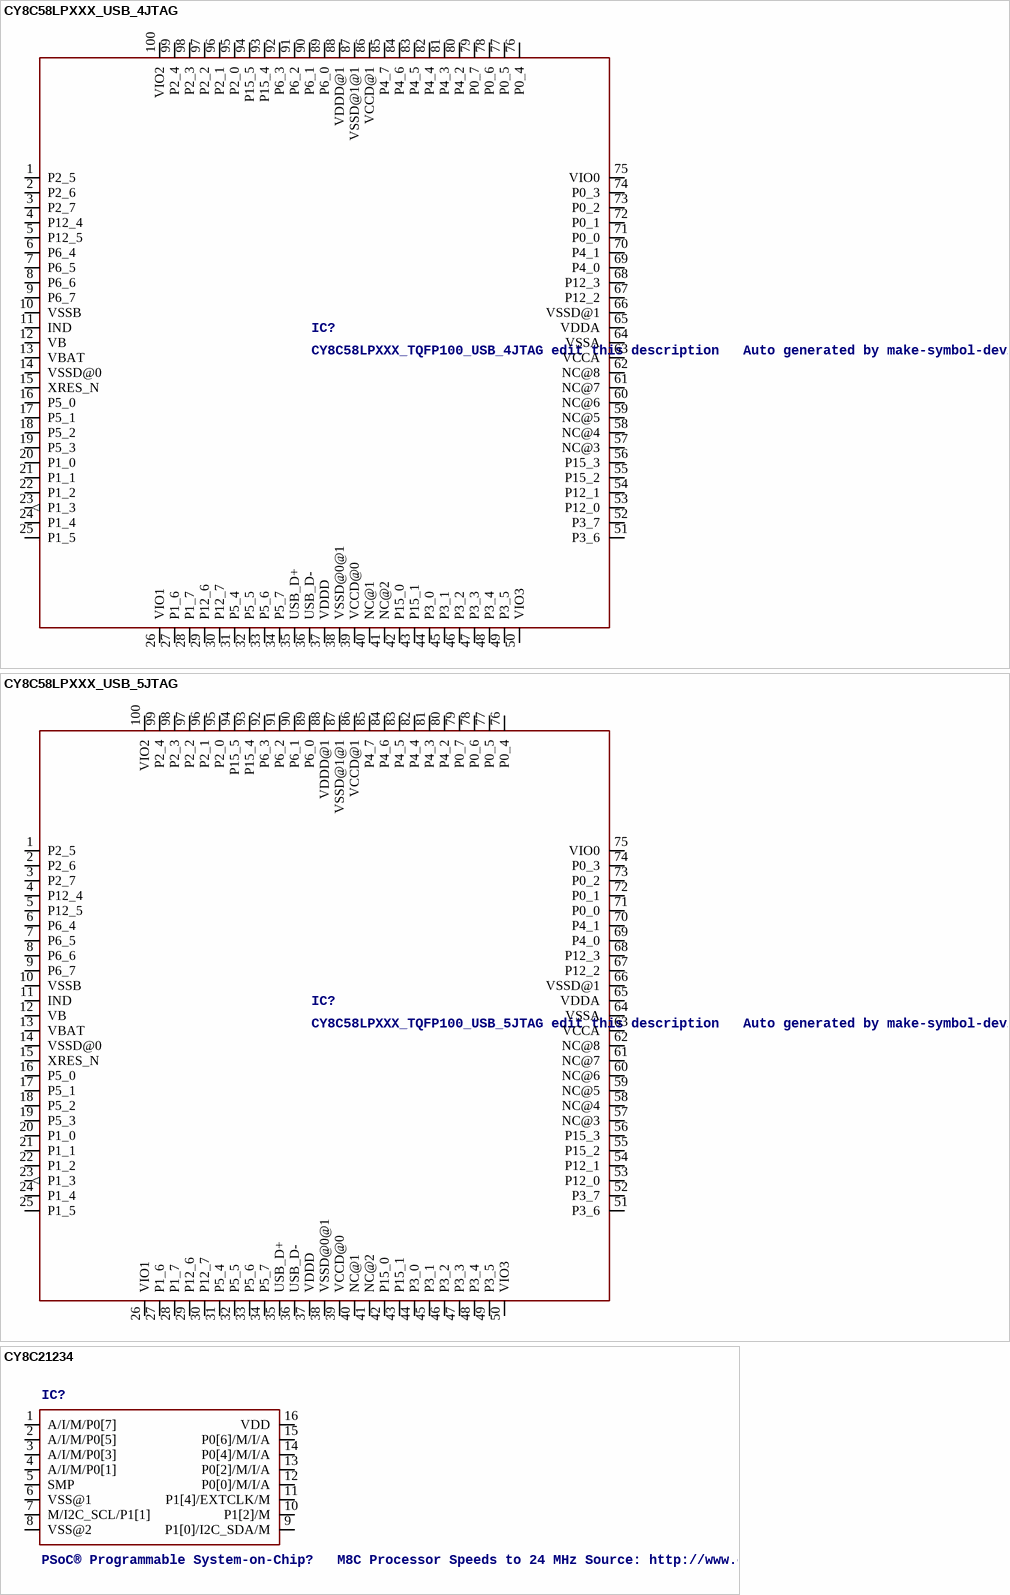
[diagram p5: symbols CY8C58LPXXX_USB_4JTAG to CY8C21234]

## CY8C58LPXXX_USB_4JTAG
designator IC?, comment CY8C58LPXXX_TQFP100_USB_4JTAG edit this description   Auto generated by make-symbol-device-package-bsdl.ulp Rev. 43 Source: CY8C58LPXXX_TQFP100_USB_4JTAG.bsdl
footprint TQFP100-14X14
pins: 1 P2_5, 2 P2_6, 3 P2_7, 4 P12_4, 5 P12_5, 6 P6_4, 7 P6_5, 8 P6_6, 9 P6_7, 10 VSSB (power), 11 IND, 12 VB, 13 VBAT, 14 VSSD@0 (power), 15 XRES_N, 16 P5_0, 17 P5_1, 18 P5_2, 19 P5_3, 20 P1_0, 21 P1_1, 22 P1_2, 23 P1_3 (out), 24 P1_4, 25 P1_5, 26 VIO1, 27 P1_6, 28 P1_7, 29 P12_6, 30 P12_7, 31 P5_4, 32 P5_5, 33 P5_6, 34 P5_7, 35 USB_D+ (hiz), 36 USB_D- (hiz), 37 VDDD (power), 38 VSSD@0@1 (power), 39 VCCD@0 (power), 40 NC@1, 41 NC@2, 42 P15_0, 43 P15_1, 44 P3_0, 45 P3_1, 46 P3_2, 47 P3_3, 48 P3_4, 49 P3_5, 50 VIO3, 51 P3_6, 52 P3_7, 53 P12_0, 54 P12_1, 55 P15_2, 56 P15_3, 57 NC@3, 58 NC@4, 59 NC@5, 60 NC@6, 61 NC@7, 62 NC@8, 63 VCCA (power), 64 VSSA (power), 65 VDDA (power), 66 VSSD@1 (power), 67 P12_2, 68 P12_3, 69 P4_0, 70 P4_1, 71 P0_0, 72 P0_1, 73 P0_2, 74 P0_3, 75 VIO0, 76 P0_4, 77 P0_5, 78 P0_6, 79 P0_7, 80 P4_2, 81 P4_3, 82 P4_4, 83 P4_5, 84 P4_6, 85 P4_7, 86 VCCD@1 (power), 87 VSSD@1@1 (power), 88 VDDD@1 (power), 89 P6_0, 90 P6_1, 91 P6_2, 92 P6_3, 93 P15_4, 94 P15_5, 95 P2_0, 96 P2_1, 97 P2_2, 98 P2_3, 99 P2_4, 100 VIO2

## CY8C58LPXXX_USB_5JTAG
designator IC?, comment CY8C58LPXXX_TQFP100_USB_5JTAG edit this description   Auto generated by make-symbol-device-package-bsdl.ulp Rev. 43 Source: CY8C58LPXXX_TQFP100_USB_5JTAG.bsdl
footprint TQFP100-14X14
pins: 1 P2_5, 2 P2_6, 3 P2_7, 4 P12_4, 5 P12_5, 6 P6_4, 7 P6_5, 8 P6_6, 9 P6_7, 10 VSSB (power), 11 IND, 12 VB, 13 VBAT, 14 VSSD@0 (power), 15 XRES_N, 16 P5_0, 17 P5_1, 18 P5_2, 19 P5_3, 20 P1_0, 21 P1_1, 22 P1_2, 23 P1_3 (out), 24 P1_4, 25 P1_5, 26 VIO1, 27 P1_6, 28 P1_7, 29 P12_6, 30 P12_7, 31 P5_4, 32 P5_5, 33 P5_6, 34 P5_7, 35 USB_D+ (hiz), 36 USB_D- (hiz), 37 VDDD (power), 38 VSSD@0@1 (power), 39 VCCD@0 (power), 40 NC@1, 41 NC@2, 42 P15_0, 43 P15_1, 44 P3_0, 45 P3_1, 46 P3_2, 47 P3_3, 48 P3_4, 49 P3_5, 50 VIO3, 51 P3_6, 52 P3_7, 53 P12_0, 54 P12_1, 55 P15_2, 56 P15_3, 57 NC@3, 58 NC@4, 59 NC@5, 60 NC@6, 61 NC@7, 62 NC@8, 63 VCCA (power), 64 VSSA (power), 65 VDDA (power), 66 VSSD@1 (power), 67 P12_2, 68 P12_3, 69 P4_0, 70 P4_1, 71 P0_0, 72 P0_1, 73 P0_2, 74 P0_3, 75 VIO0, 76 P0_4, 77 P0_5, 78 P0_6, 79 P0_7, 80 P4_2, 81 P4_3, 82 P4_4, 83 P4_5, 84 P4_6, 85 P4_7, 86 VCCD@1 (power), 87 VSSD@1@1 (power), 88 VDDD@1 (power), 89 P6_0, 90 P6_1, 91 P6_2, 92 P6_3, 93 P15_4, 94 P15_5, 95 P2_0, 96 P2_1, 97 P2_2, 98 P2_3, 99 P2_4, 100 VIO2

## CY8C21234
designator IC?, comment PSoC® Programmable System-on-Chip?   M8C Processor Speeds to 24 MHz Source: http://www.cypress.com .. 38-12025_0P_V.pdf
MPN: CY8C21234-24SXI; OC_FARNELL: 1321728; OC_NEWARK: 19M7160
footprint SOIC16
pins: 1 A/I/M/P0[7], 2 A/I/M/P0[5], 3 A/I/M/P0[3], 4 A/I/M/P0[1], 5 SMP (power), 6 VSS@1 (power), 7 M/I2C_SCL/P1[1], 8 VSS@2 (power), 9 P1[0]/I2C_SDA/M, 10 P1[2]/M, 11 P1[4]/EXTCLK/M, 12 P0[0]/M/I/A, 13 P0[2]/M/I/A, 14 P0[4]/M/I/A, 15 P0[6]/M/I/A, 16 VDD (power)

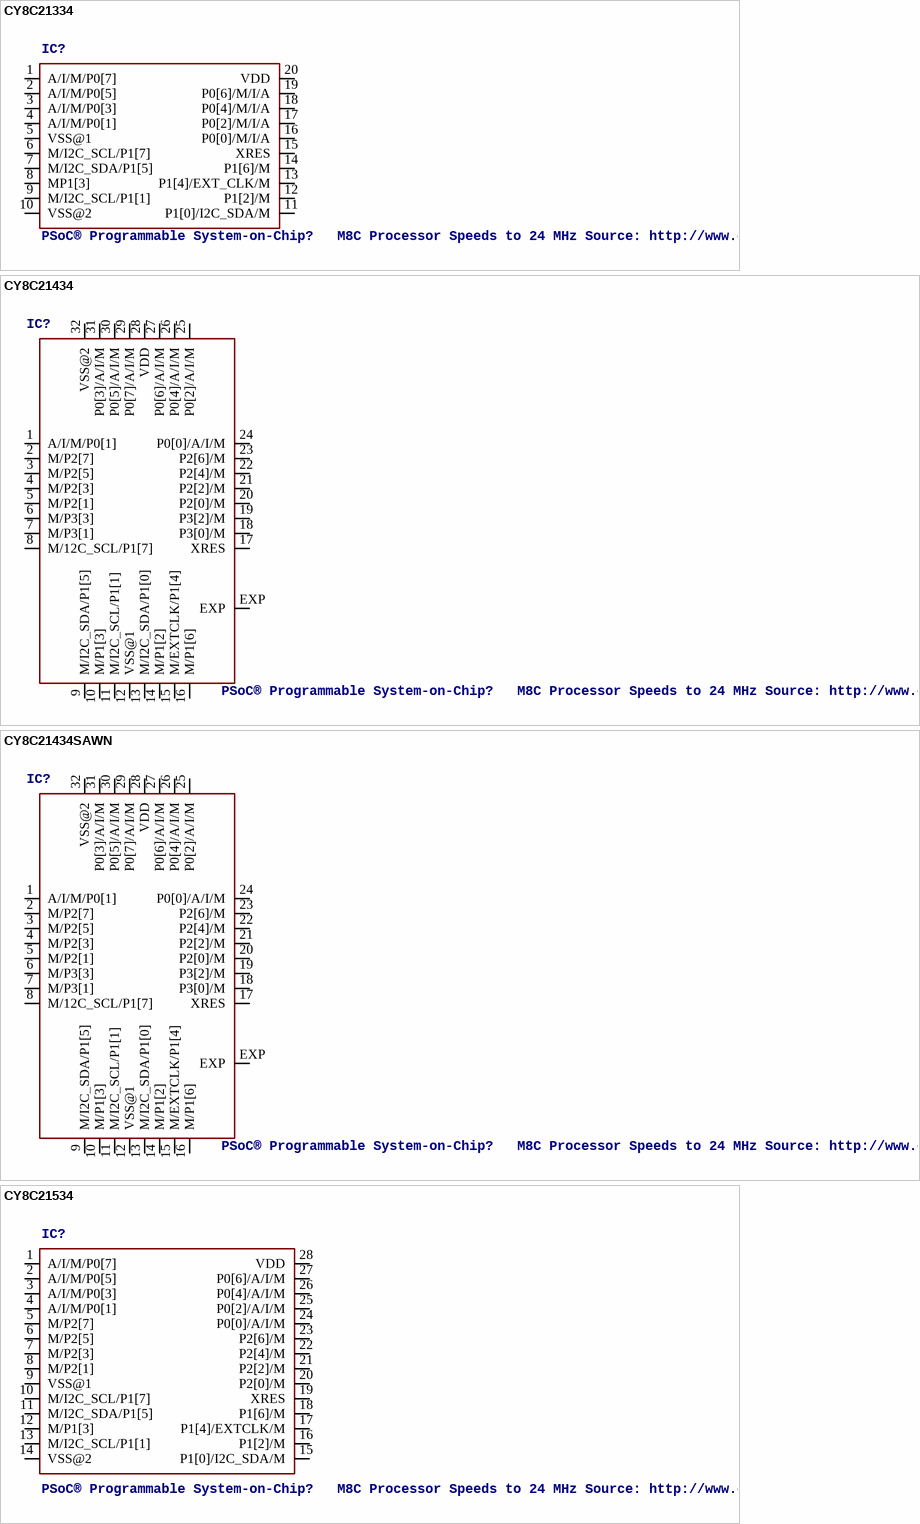
[diagram p6: symbols CY8C21334 to CY8C21534]

## CY8C21334
designator IC?, comment PSoC® Programmable System-on-Chip?   M8C Processor Speeds to 24 MHz Source: http://www.cypress.com .. 38-12025_0P_V.pdf
MPN: CY8C21334-12PVXE; OC_FARNELL: 1321731; OC_NEWARK: 53M3699
footprint SSOP20
pins: 1 A/I/M/P0[7], 2 A/I/M/P0[5], 3 A/I/M/P0[3], 4 A/I/M/P0[1], 5 VSS@1 (power), 6 M/I2C_SCL/P1[7], 7 M/I2C_SDA/P1[5], 8 MP1[3], 9 M/I2C_SCL/P1[1], 10 VSS@2 (power), 11 P1[0]/I2C_SDA/M, 12 P1[2]/M, 13 P1[4]/EXT_CLK/M, 14 P1[6]/M, 15 XRES, 16 P0[0]/M/I/A, 17 P0[2]/M/I/A, 18 P0[4]/M/I/A, 19 P0[6]/M/I/A, 20 VDD (power)

## CY8C21434
designator IC?, comment PSoC® Programmable System-on-Chip?   M8C Processor Speeds to 24 MHz Source: http://www.cypress.com .. 38-12025_0P_V.pdf
OC_FARNELL: 1321732; OC_NEWARK: unknown
footprint QFN32
pins: 1 A/I/M/P0[1], 2 M/P2[7], 3 M/P2[5], 4 M/P2[3], 5 M/P2[1], 6 M/P3[3], 7 M/P3[1], 8 M/12C_SCL/P1[7], 9 M/I2C_SDA/P1[5], 10 M/P1[3], 11 M/I2C_SCL/P1[1], 12 VSS@1 (power), 13 M/I2C_SDA/P1[0], 14 M/P1[2], 15 M/EXTCLK/P1[4], 16 M/P1[6], 17 XRES, 18 P3[0]/M, 19 P3[2]/M, 20 P2[0]/M, 21 P2[2]/M, 22 P2[4]/M, 23 P2[6]/M, 24 P0[0]/A/I/M, 25 P0[2]/A/I/M, 26 P0[4]/A/I/M, 27 P0[6]/A/I/M, 28 VDD (power), 29 P0[7]/A/I/M, 30 P0[5]/A/I/M, 31 P0[3]/A/I/M, 32 VSS@2 (power), EXP

## CY8C21434SAWN
designator IC?, comment PSoC® Programmable System-on-Chip?   M8C Processor Speeds to 24 MHz Source: http://www.cypress.com .. 38-12025_0P_V.pdf
OC_FARNELL: unknown; OC_NEWARK: unknown
footprint QFN32-SAWN
pins: 1 A/I/M/P0[1], 2 M/P2[7], 3 M/P2[5], 4 M/P2[3], 5 M/P2[1], 6 M/P3[3], 7 M/P3[1], 8 M/12C_SCL/P1[7], 9 M/I2C_SDA/P1[5], 10 M/P1[3], 11 M/I2C_SCL/P1[1], 12 VSS@1 (power), 13 M/I2C_SDA/P1[0], 14 M/P1[2], 15 M/EXTCLK/P1[4], 16 M/P1[6], 17 XRES, 18 P3[0]/M, 19 P3[2]/M, 20 P2[0]/M, 21 P2[2]/M, 22 P2[4]/M, 23 P2[6]/M, 24 P0[0]/A/I/M, 25 P0[2]/A/I/M, 26 P0[4]/A/I/M, 27 P0[6]/A/I/M, 28 VDD (power), 29 P0[7]/A/I/M, 30 P0[5]/A/I/M, 31 P0[3]/A/I/M, 32 VSS@2 (power), EXP

## CY8C21534
designator IC?, comment PSoC® Programmable System-on-Chip?   M8C Processor Speeds to 24 MHz Source: http://www.cypress.com .. 38-12025_0P_V.pdf
MPN: CY8C21534-12PVXE; OC_FARNELL: 1321733; OC_NEWARK: 19M7172
footprint SSOP28
pins: 1 A/I/M/P0[7], 2 A/I/M/P0[5], 3 A/I/M/P0[3], 4 A/I/M/P0[1], 5 M/P2[7], 6 M/P2[5], 7 M/P2[3], 8 M/P2[1], 9 VSS@1 (power), 10 M/I2C_SCL/P1[7], 11 M/I2C_SDA/P1[5], 12 M/P1[3], 13 M/I2C_SCL/P1[1], 14 VSS@2 (power), 15 P1[0]/I2C_SDA/M, 16 P1[2]/M, 17 P1[4]/EXTCLK/M, 18 P1[6]/M, 19 XRES, 20 P2[0]/M, 21 P2[2]/M, 22 P2[4]/M, 23 P2[6]/M, 24 P0[0]/A/I/M, 25 P0[2]/A/I/M, 26 P0[4]/A/I/M, 27 P0[6]/A/I/M, 28 VDD (power)

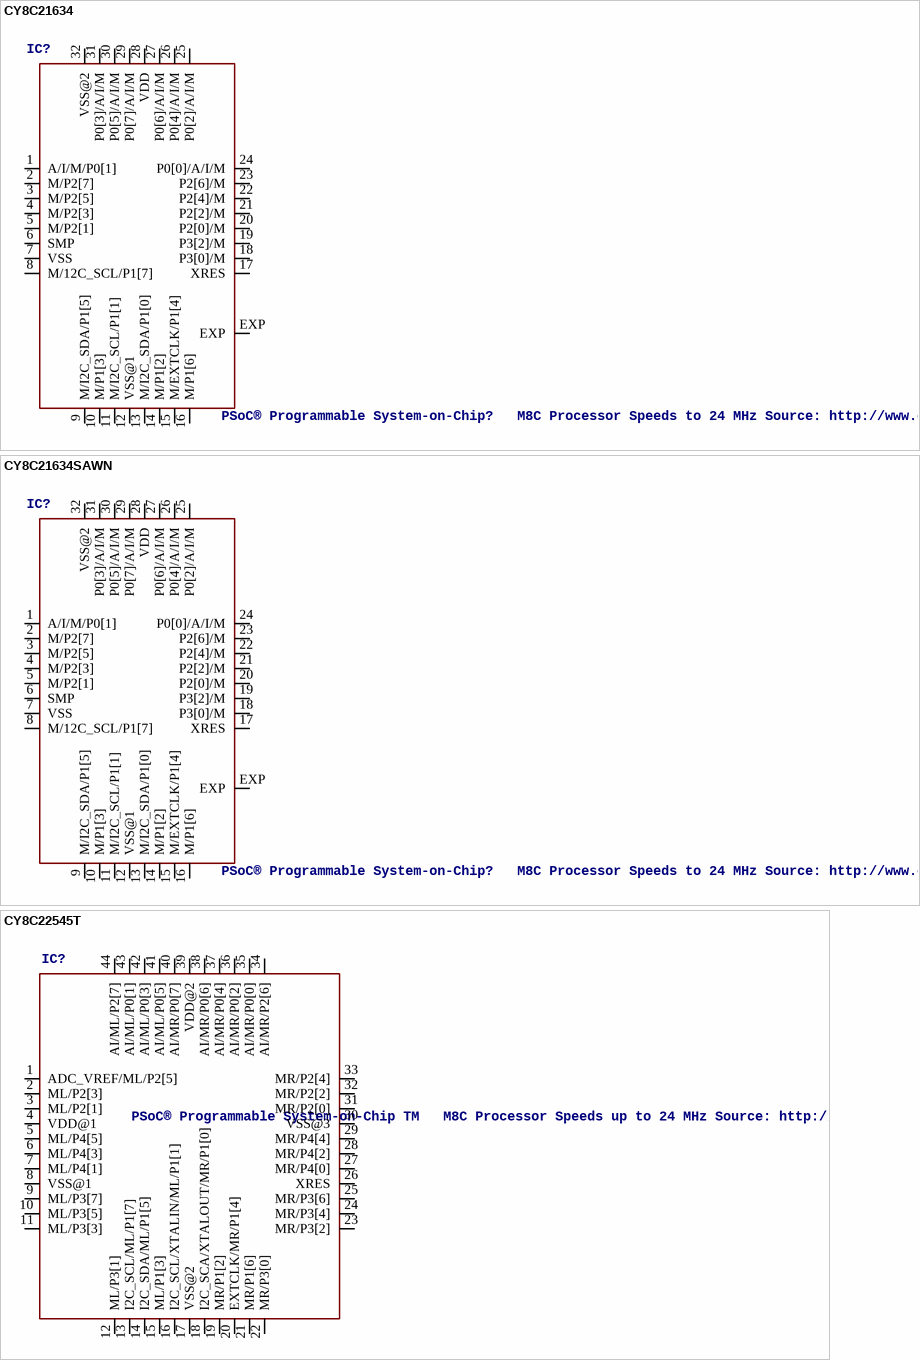
[diagram p7: symbols CY8C21634 to CY8C22545T]

## CY8C21634
designator IC?, comment PSoC® Programmable System-on-Chip?   M8C Processor Speeds to 24 MHz Source: http://www.cypress.com .. 38-12025_0P_V.pdf
OC_FARNELL: 1321734; OC_NEWARK: unknown
footprint QFN32
pins: 1 A/I/M/P0[1], 2 M/P2[7], 3 M/P2[5], 4 M/P2[3], 5 M/P2[1], 6 SMP (power), 7 VSS (power), 8 M/12C_SCL/P1[7], 9 M/I2C_SDA/P1[5], 10 M/P1[3], 11 M/I2C_SCL/P1[1], 12 VSS@1 (power), 13 M/I2C_SDA/P1[0], 14 M/P1[2], 15 M/EXTCLK/P1[4], 16 M/P1[6], 17 XRES, 18 P3[0]/M, 19 P3[2]/M, 20 P2[0]/M, 21 P2[2]/M, 22 P2[4]/M, 23 P2[6]/M, 24 P0[0]/A/I/M, 25 P0[2]/A/I/M, 26 P0[4]/A/I/M, 27 P0[6]/A/I/M, 28 VDD (power), 29 P0[7]/A/I/M, 30 P0[5]/A/I/M, 31 P0[3]/A/I/M, 32 VSS@2 (power), EXP

## CY8C21634SAWN
designator IC?, comment PSoC® Programmable System-on-Chip?   M8C Processor Speeds to 24 MHz Source: http://www.cypress.com .. 38-12025_0P_V.pdf
OC_FARNELL: unknown; OC_NEWARK: unknown
footprint QFN32-SAWN
pins: 1 A/I/M/P0[1], 2 M/P2[7], 3 M/P2[5], 4 M/P2[3], 5 M/P2[1], 6 SMP (power), 7 VSS (power), 8 M/12C_SCL/P1[7], 9 M/I2C_SDA/P1[5], 10 M/P1[3], 11 M/I2C_SCL/P1[1], 12 VSS@1 (power), 13 M/I2C_SDA/P1[0], 14 M/P1[2], 15 M/EXTCLK/P1[4], 16 M/P1[6], 17 XRES, 18 P3[0]/M, 19 P3[2]/M, 20 P2[0]/M, 21 P2[2]/M, 22 P2[4]/M, 23 P2[6]/M, 24 P0[0]/A/I/M, 25 P0[2]/A/I/M, 26 P0[4]/A/I/M, 27 P0[6]/A/I/M, 28 VDD (power), 29 P0[7]/A/I/M, 30 P0[5]/A/I/M, 31 P0[3]/A/I/M, 32 VSS@2 (power), EXP

## CY8C22545T
designator IC?, comment PSoC® Programmable System-on-Chip TM   M8C Processor Speeds up to 24 MHz Source: http://www.cypress.com .. CY8C213452.pdf
OC_FARNELL: unknown; OC_NEWARK: unknown
footprint TQFP44
pins: 1 ADC_VREF/ML/P2[5], 2 ML/P2[3], 3 ML/P2[1], 4 VDD@1 (power), 5 ML/P4[5], 6 ML/P4[3], 7 ML/P4[1], 8 VSS@1 (power), 9 ML/P3[7], 10 ML/P3[5], 11 ML/P3[3], 12 ML/P3[1], 13 I2C_SCL/ML/P1[7], 14 I2C_SDA/ML/P1[5], 15 ML/P1[3], 16 I2C_SCL/XTALIN/ML/P1[1], 17 VSS@2 (power), 18 I2C_SCA/XTALOUT/MR/P1[0], 19 MR/P1[2], 20 EXTCLK/MR/P1[4], 21 MR/P1[6], 22 MR/P3[0], 23 MR/P3[2], 24 MR/P3[4], 25 MR/P3[6], 26 XRES, 27 MR/P4[0], 28 MR/P4[2], 29 MR/P4[4], 30 VSS@3 (power), 31 MR/P2[0], 32 MR/P2[2], 33 MR/P2[4], 34 AI/MR/P2[6], 35 AI/MR/P0[0], 36 AI/MR/P0[2], 37 AI/MR/P0[4], 38 AI/MR/P0[6], 39 VDD@2 (power), 40 AI/MR/P0[7], 41 AI/ML/P0[5], 42 AI/ML/P0[3], 43 AI/ML/P0[1], 44 AI/ML/P2[7]

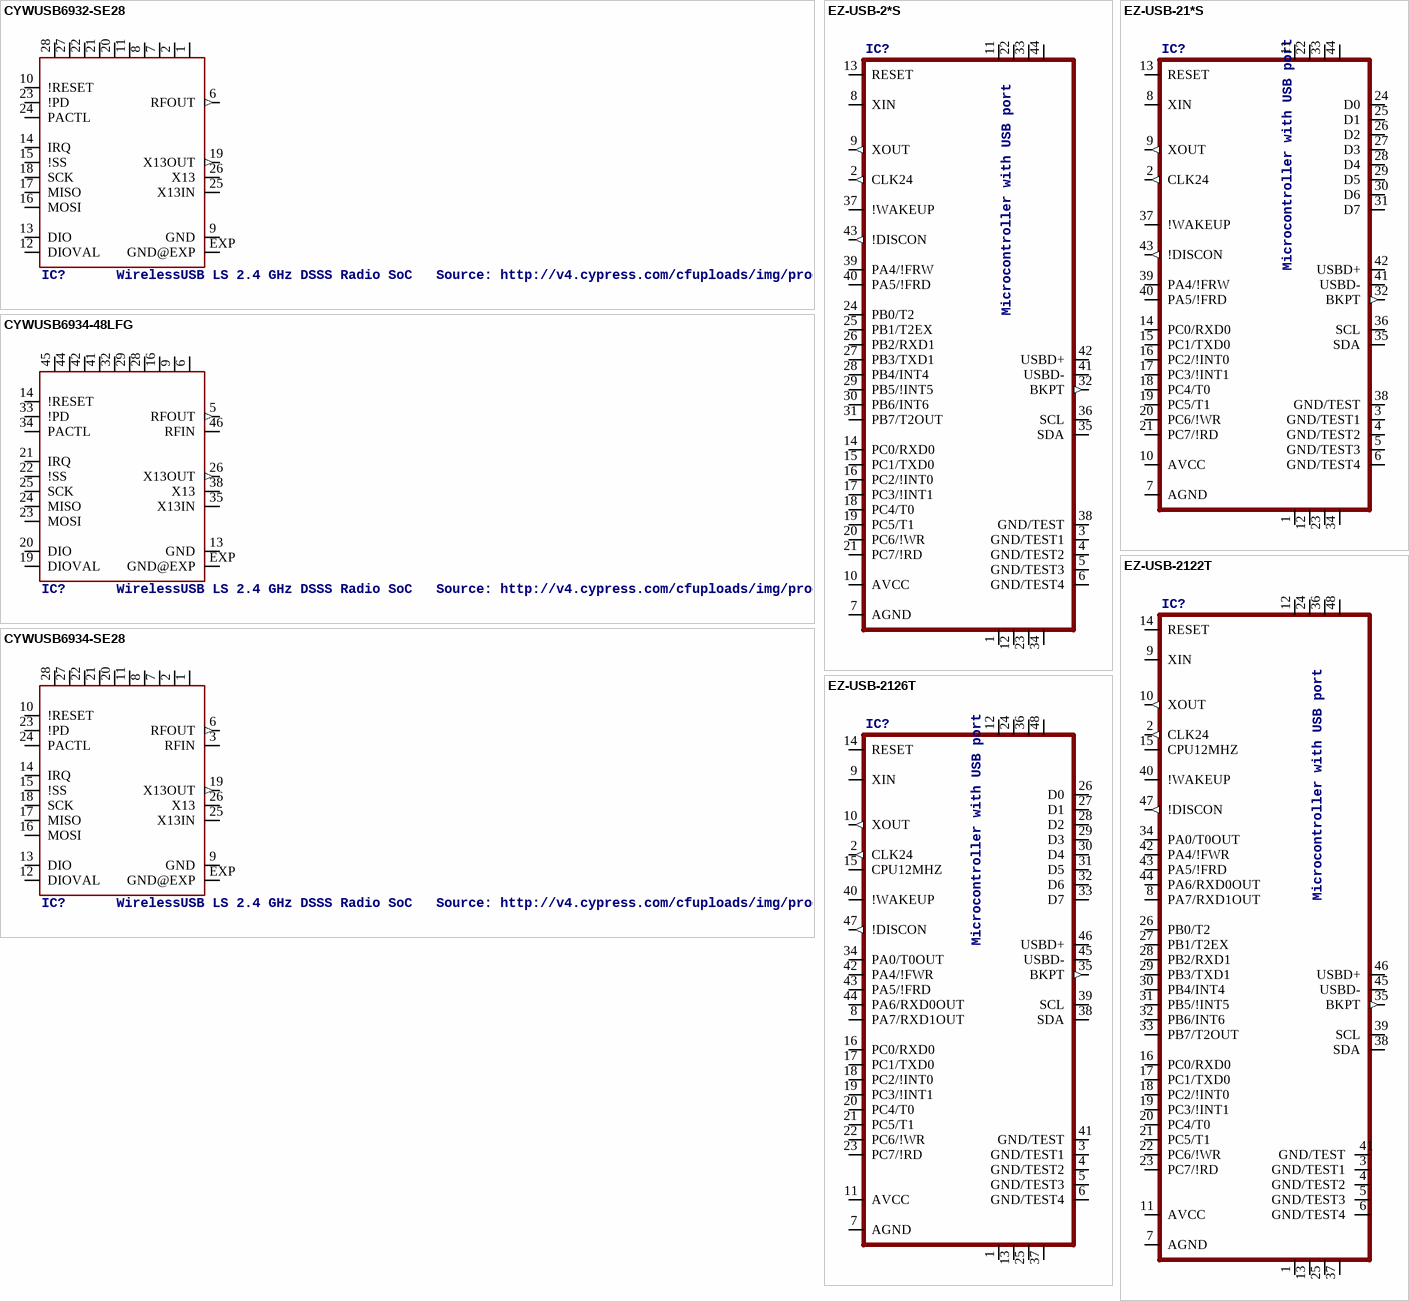
[diagram p8: symbols CYWUSB6932-SE28 to EZ-USB-2126T]

## CYWUSB6932-SE28
designator IC?, comment WirelessUSB LS 2.4 GHz DSSS Radio SoC   Source: http://v4.cypress.com/cfuploads/img/products/cywusb6934.pdf
OC_FARNELL: unknown; OC_NEWARK: unknown
footprint SOIC28-EPAD
pins: 1 VCC (power), 2 VCC@1 (power), 6 RFOUT (out), 7 VCC@2 (power), 8 VCC@3 (power), 9 GND (power), 10 !RESET, 11 VCC@4 (power), 12 DIOVAL, 13 DIO, 14 IRQ (hiz), 15 !SS, 16 MOSI, 17 MISO (hiz), 18 SCK, 19 X13OUT (out), 20 VCC@5 (power), 21 VCC@6 (power), 22 VCC@7 (power), 23 !PD, 24 PACTL, 25 X13IN, 26 X13, 27 VCC@8 (power), 28 VCC@9 (power), EXP GND@EXP (power)

## CYWUSB6934-48LFG
designator IC?, comment WirelessUSB LS 2.4 GHz DSSS Radio SoC   Source: http://v4.cypress.com/cfuploads/img/products/cywusb6934.pdf
OC_FARNELL: unknown; OC_NEWARK: unknown
footprint QFN48
pins: 5 RFOUT (out), 6 VCC (power), 9 VCC@1 (power), 13 GND (power), 14 !RESET, 16 VCC@2 (power), 19 DIOVAL, 20 DIO, 21 IRQ (hiz), 22 !SS, 23 MOSI, 24 MISO (hiz), 25 SCK, 26 X13OUT (out), 28 VCC@3 (power), 29 VCC@4 (power), 32 VCC@5 (power), 33 !PD, 34 PACTL, 35 X13IN, 38 X13, 41 VCC@6 (power), 42 VCC@7 (power), 44 VCC@8 (power), 45 VCC@9 (power), 46 RFIN, EXP GND@EXP (power)

## CYWUSB6934-SE28
designator IC?, comment WirelessUSB LS 2.4 GHz DSSS Radio SoC   Source: http://v4.cypress.com/cfuploads/img/products/cywusb6934.pdf
OC_FARNELL: unknown; OC_NEWARK: unknown
footprint SOIC28-EPAD
pins: 1 VCC (power), 2 VCC@1 (power), 3 RFIN, 6 RFOUT (out), 7 VCC@2 (power), 8 VCC@3 (power), 9 GND (power), 10 !RESET, 11 VCC@4 (power), 12 DIOVAL, 13 DIO, 14 IRQ (hiz), 15 !SS, 16 MOSI, 17 MISO (hiz), 18 SCK, 19 X13OUT (out), 20 VCC@5 (power), 21 VCC@6 (power), 22 VCC@7 (power), 23 !PD, 24 PACTL, 25 X13IN, 26 X13, 27 VCC@8 (power), 28 VCC@9 (power), EXP GND@EXP (power)

## EZ-USB-2*S
designator IC?, comment Microcontroller with USB port
OC_FARNELL: unknown; OC_NEWARK: unknown
footprint PQFP44
pins: 1 GND (power), 2 CLK24 (out), 3 GND/TEST1 (power), 4 GND/TEST2 (power), 5 GND/TEST3 (power), 6 GND/TEST4 (power), 7 AGND (power), 8 XIN, 9 XOUT (out), 10 AVCC (power), 11 VCC3.3@1 (power), 12 GND@1 (power), 13 RESET, 14 PC0/RXD0, 15 PC1/TXD0, 16 PC2/!INT0, 17 PC3/!INT1, 18 PC4/T0, 19 PC5/T1, 20 PC6/!WR, 21 PC7/!RD, 22 VCC3.3@2 (power), 23 GND@2 (power), 24 PB0/T2, 25 PB1/T2EX, 26 PB2/RXD1, 27 PB3/TXD1, 28 PB4/INT4, 29 PB5/!INT5, 30 PB6/INT6, 31 PB7/T2OUT, 32 BKPT (out), 33 VCC3.3@3 (power), 34 GND@3 (power), 35 SDA (oc), 36 SCL (oc), 37 !WAKEUP, 38 GND/TEST (power), 39 PA4/!FRW, 40 PA5/!FRD, 41 USBD- (hiz), 42 USBD+ (hiz), 43 !DISCON (out), 44 VCC3.3@4 (power)

## EZ-USB-21*S
designator IC?, comment Microcontroller with USB port
OC_FARNELL: unknown; OC_NEWARK: unknown
footprint PQFP44
pins: 1 GND (power), 2 CLK24 (out), 3 GND/TEST1 (power), 4 GND/TEST2 (power), 5 GND/TEST3 (power), 6 GND/TEST4 (power), 7 AGND (power), 8 XIN, 9 XOUT (out), 10 AVCC (power), 11 VCC3.3@1 (power), 12 GND@1 (power), 13 RESET, 14 PC0/RXD0, 15 PC1/TXD0, 16 PC2/!INT0, 17 PC3/!INT1, 18 PC4/T0, 19 PC5/T1, 20 PC6/!WR, 21 PC7/!RD, 22 VCC3.3@2 (power), 23 GND@2 (power), 24 D0 (hiz), 25 D1 (hiz), 26 D2 (hiz), 27 D3 (hiz), 28 D4 (hiz), 29 D5 (hiz), 30 D6 (hiz), 31 D7 (hiz), 32 BKPT (out), 33 VCC3.3@3 (power), 34 GND@3 (power), 35 SDA (oc), 36 SCL (oc), 37 !WAKEUP, 38 GND/TEST (power), 39 PA4/!FRW, 40 PA5/!FRD, 41 USBD- (hiz), 42 USBD+ (hiz), 43 !DISCON (out), 44 VCC3.3@4 (power)

## EZ-USB-2122T
designator IC?, comment Microcontroller with USB port
OC_FARNELL: unknown; OC_NEWARK: unknown
footprint TQFP48_7X7
pins: 1 GND (power), 2 CLK24 (out), 3 GND/TEST1 (power), 4 GND/TEST2 (power), 5 GND/TEST3 (power), 6 GND/TEST4 (power), 7 AGND (power), 8 PA7/RXD1OUT, 9 XIN, 10 XOUT (out), 11 AVCC (power), 12 VCC3.3@1 (power), 13 GND@1 (power), 14 RESET, 15 CPU12MHZ, 16 PC0/RXD0, 17 PC1/TXD0, 18 PC2/!INT0, 19 PC3/!INT1, 20 PC4/T0, 21 PC5/T1, 22 PC6/!WR, 23 PC7/!RD, 24 VCC3.3@2 (power), 25 GND@2 (power), 26 PB0/T2, 27 PB1/T2EX, 28 PB2/RXD1, 29 PB3/TXD1, 30 PB4/INT4, 31 PB5/!INT5, 32 PB6/INT6, 33 PB7/T2OUT, 34 PA0/T0OUT, 35 BKPT (out), 36 VCC3.3@3 (power), 37 GND@3 (power), 38 SDA (oc), 39 SCL (oc), 40 !WAKEUP, 41 GND/TEST (power), 42 PA4/!FWR, 43 PA5/!FRD, 44 PA6/RXD0OUT, 45 USBD- (hiz), 46 USBD+ (hiz), 47 !DISCON (out), 48 VCC3.3@4 (power)

## EZ-USB-2126T
designator IC?, comment Microcontroller with USB port
OC_FARNELL: unknown; OC_NEWARK: unknown
footprint TQFP48_7X7
pins: 1 GND (power), 2 CLK24 (out), 3 GND/TEST1 (power), 4 GND/TEST2 (power), 5 GND/TEST3 (power), 6 GND/TEST4 (power), 7 AGND (power), 8 PA7/RXD1OUT, 9 XIN, 10 XOUT (out), 11 AVCC (power), 12 VCC3.3@1 (power), 13 GND@1 (power), 14 RESET, 15 CPU12MHZ, 16 PC0/RXD0, 17 PC1/TXD0, 18 PC2/!INT0, 19 PC3/!INT1, 20 PC4/T0, 21 PC5/T1, 22 PC6/!WR, 23 PC7/!RD, 24 VCC3.3@2 (power), 25 GND@2 (power), 26 D0 (hiz), 27 D1 (hiz), 28 D2 (hiz), 29 D3 (hiz), 30 D4 (hiz), 31 D5 (hiz), 32 D6 (hiz), 33 D7 (hiz), 34 PA0/T0OUT, 35 BKPT (out), 36 VCC3.3@3 (power), 37 GND@3 (power), 38 SDA (oc), 39 SCL (oc), 40 !WAKEUP, 41 GND/TEST (power), 42 PA4/!FWR, 43 PA5/!FRD, 44 PA6/RXD0OUT, 45 USBD- (hiz), 46 USBD+ (hiz), 47 !DISCON (out), 48 VCC3.3@4 (power)

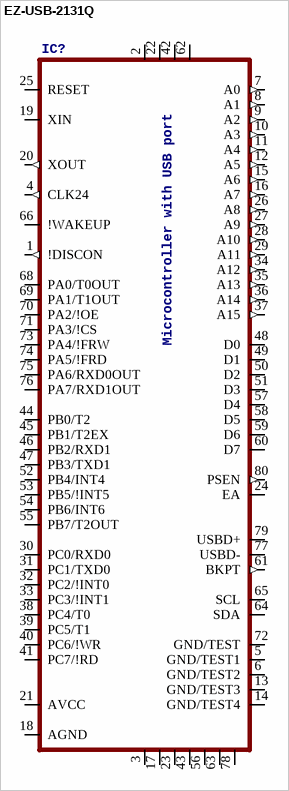
[diagram p9: symbol EZ-USB-2131Q]

## EZ-USB-2131Q
designator IC?, comment Microcontroller with USB port
OC_FARNELL: unknown; OC_NEWARK: unknown
footprint PQFP80
pins: 1 !DISCON (out), 2 VCC3.3@1 (power), 3 GND (power), 4 CLK24 (out), 5 GND/TEST1 (power), 6 GND/TEST2 (power), 7 A0 (out), 8 A1 (out), 9 A2 (out), 10 A3 (out), 11 A4 (out), 12 A5 (out), 13 GND/TEST3 (power), 14 GND/TEST4 (power), 15 A6 (out), 16 A7 (out), 17 GND@1 (power), 18 AGND (power), 19 XIN, 20 XOUT (out), 21 AVCC (power), 22 VCC3.3@2 (power), 23 GND@2 (power), 24 EA, 25 RESET, 26 A8 (out), 27 A9 (out), 28 A10 (out), 29 A11 (out), 30 PC0/RXD0, 31 PC1/TXD0, 32 PC2/!INT0, 33 PC3/!INT1, 34 A12 (out), 35 A13 (out), 36 A14 (out), 37 A15 (out), 38 PC4/T0, 39 PC5/T1, 40 PC6/!WR, 41 PC7/!RD, 42 VCC3.3@3 (power), 43 GND@3 (power), 44 PB0/T2, 45 PB1/T2EX, 46 PB2/RXD1, 47 PB3/TXD1, 48 D0 (hiz), 49 D1 (hiz), 50 D2 (hiz), 51 D3 (hiz), 52 PB4/INT4, 53 PB5/!INT5, 54 PB6/INT6, 55 PB7/T2OUT, 56 GND@4 (power), 57 D4 (hiz), 58 D5 (hiz), 59 D6 (hiz), 60 D7 (hiz), 61 BKPT (out), 62 VCC3.3@4 (power), 63 GND@5 (power), 64 SDA (oc), 65 SCL (oc), 66 !WAKEUP, 68 PA0/T0OUT, 69 PA1/T1OUT, 70 PA2/!OE, 71 PA3/!CS, 72 GND/TEST (power), 73 PA4/!FRW, 74 PA5/!FRD, 75 PA6/RXD0OUT, 76 PA7/RXD1OUT, 77 USBD- (hiz), 78 GND@6 (power), 79 USBD+ (hiz), 80 PSEN (out)